# Altium schematic symbol library BQ79614PAPRQ1.SchLib: 1 symbol
Pins are listed as number, name and electrical type; pins without a type are passive.

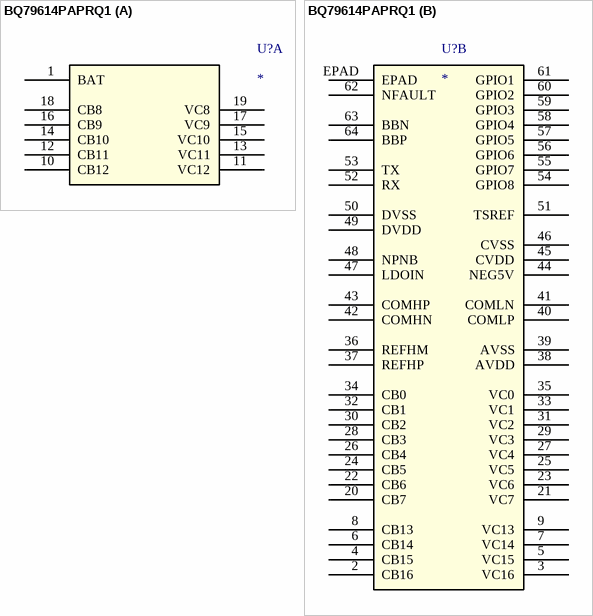
[diagram p0: symbol BQ79614PAPRQ1]

## BQ79614PAPRQ1
designator U?
No Description Available; Mfr_Name: Texas Instruments; RefDes: RefDes; Type: Type
footprint QFP_4PAPRQ1_TEX
part A pins: 1 BAT, 10 CB12, 11 VC12, 12 CB11, 13 VC11, 14 CB10, 15 VC10, 16 CB9, 17 VC9, 18 CB8, 19 VC8
part B pins: 2 CB16, 3 VC16, 4 CB15, 5 VC15, 6 CB14, 7 VC14, 8 CB13, 9 VC13, 20 CB7, 21 VC7, 22 CB6, 23 VC6, 24 CB5, 25 VC5, 26 CB4, 27 VC4, 28 CB3, 29 VC3, 30 CB2, 31 VC2, 32 CB1, 33 VC1, 34 CB0, 35 VC0, 36 REFHM, 37 REFHP, 38 AVDD, 39 AVSS, 40 COMLP, 41 COMLN, 42 COMHN, 43 COMHP, 44 NEG5V, 45 CVDD, 46 CVSS, 47 LDOIN, 48 NPNB, 49 DVDD, 50 DVSS, 51 TSREF, 52 RX, 53 TX, 54 GPIO8, 55 GPIO7, 56 GPIO6, 57 GPIO5, 58 GPIO4, 59 GPIO3, 60 GPIO2, 61 GPIO1, 62 NFAULT, 63 BBN, 64 BBP, EPAD